# EAGLE library part ESP-SCREEN (library pixel)
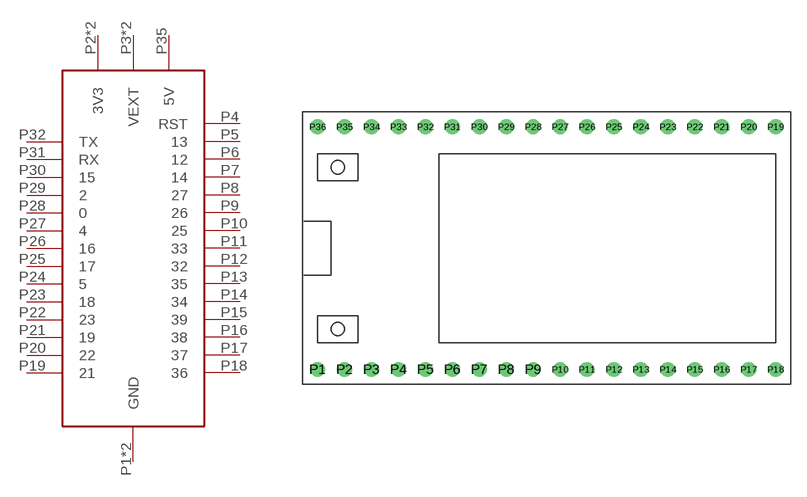
[diagram p11: symbol with the pads of ESP-SCREEN-DIP; footprint ESP-SCREEN-DIP]

Designator prefix -

## ESP-SCREEN  [ESP-SCREEN-DIP]
P1  GND
P2  3V3
P3  VEXT
P4  RST
P5  13
P6  12
P7  14
P8  27
P9  26
P10  25
P11  33
P12  32
P13  35
P14  34
P15  39
P16  38
P17  37
P18  36
P19  21
P20  22
P21  19
P22  23
P23  18
P24  5
P25  17
P26  16
P27  4
P28  0
P29  2
P30  15
P31  RX
P32  TX
P33  VEXT
P34  3V3
P35  5V
P36  GND

## Footprint ESP-SCREEN-DIP (pad centres in mm)
drill 0.9: P1 -21.59,-11.43; P2 -19.05,-11.43; P3 -16.51,-11.43; P4 -13.97,-11.43; P5 -11.43,-11.43; P6 -8.89,-11.43; P7 -6.35,-11.43; P8 -3.81,-11.43; P9 -1.27,-11.43; P10 1.27,-11.43; P11 3.81,-11.43; P12 6.35,-11.43; P13 8.89,-11.43; P14 11.43,-11.43; P15 13.97,-11.43; P16 16.51,-11.43; P17 19.05,-11.43; P18 21.59,-11.43; P19 21.59,11.43; P20 19.05,11.43; P21 16.51,11.43; P22 13.97,11.43; P23 11.43,11.43; P24 8.89,11.43; P25 6.35,11.43; P26 3.81,11.43; P27 1.27,11.43; P28 -1.27,11.43; P29 -3.81,11.43; P30 -6.35,11.43; P31 -8.89,11.43; P32 -11.43,11.43; P33 -13.97,11.43; P34 -16.51,11.43; P35 -19.05,11.43; P36 -21.59,11.43